# EAGLE library part TEXAS_INSTRUMENTS-DIGITAL_POTENTIOMETER-TPL0102-100PWR (library Module_ICs)
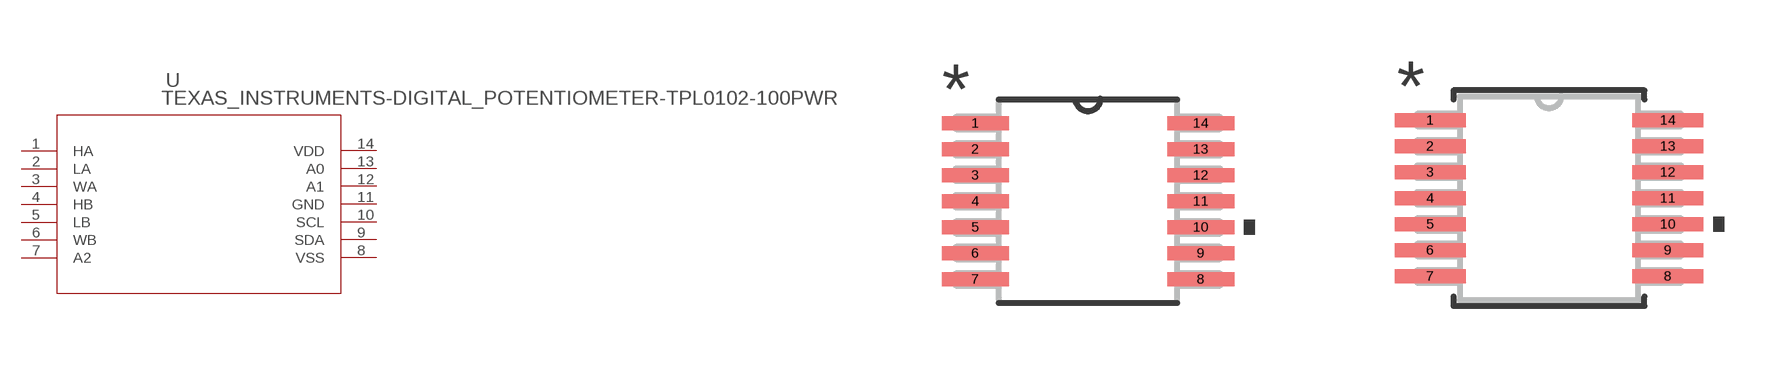
[diagram p62: symbol with the pads of PW14; footprints PW14, PW14-M]

Designator prefix U

## TEXAS_INSTRUMENTS-DIGITAL_POTENTIOMETER-TPL0102-100PWR (DATASHEET_URL: http://www.ti.com/lit/gpn/TPL0102-100; DESCRIPTION: 256 Taps Dual Channel Digital Potentiometer with I2C Interface and Non-Volatile Memory; FAMILY_NAME: DIGITAL POTENTIOMETER; GENERIC_PART_NUMBER: TPL0102-100; INDUSTRY_STD_PKG_TYPE: TSSOP; MANUFACTURER: Texas Instruments; MANUFACTURER_PART_NUMBER: TPL0102-100PWR; PACKAGE_DESIGNATOR: PW; PIN_COUNT: 14; VENDOR: Texas Instruments)  [PW14]
1  HA
2  LA
3  WA
4  HB
5  LB
6  WB
7  A2  in
8  VSS  pwr
9  SDA
10  SCL  in
11  GND  pwr
12  A1  in
13  A0  in
14  VDD  pwr

## TEXAS_INSTRUMENTS-DIGITAL_POTENTIOMETER-TPL0102-100PWRPW14-M (DATASHEET_URL: http://www.ti.com/lit/gpn/TPL0102-100; DESCRIPTION: 256 Taps Dual Channel Digital Potentiometer with I2C Interface and Non-Volatile Memory; FAMILY_NAME: DIGITAL POTENTIOMETER; GENERIC_PART_NUMBER: TPL0102-100; INDUSTRY_STD_PKG_TYPE: TSSOP; MANUFACTURER: Texas Instruments; MANUFACTURER_PART_NUMBER: TPL0102-100PWR; PACKAGE_DESIGNATOR: PW; PIN_COUNT: 14; VENDOR: Texas Instruments)  [PW14-M]
Pads as for PW14

## TEXAS_INSTRUMENTS-DIGITAL_POTENTIOMETER-TPL0102-100PWRPW14-L (DATASHEET_URL: http://www.ti.com/lit/gpn/TPL0102-100; DESCRIPTION: 256 Taps Dual Channel Digital Potentiometer with I2C Interface and Non-Volatile Memory; FAMILY_NAME: DIGITAL POTENTIOMETER; GENERIC_PART_NUMBER: TPL0102-100; INDUSTRY_STD_PKG_TYPE: TSSOP; MANUFACTURER: Texas Instruments; MANUFACTURER_PART_NUMBER: TPL0102-100PWR; PACKAGE_DESIGNATOR: PW; PIN_COUNT: 14; VENDOR: Texas Instruments)  [PW14-L]
Pads as for PW14

## Footprint PW14 (pad centres in mm)
smd 1.676 x 0.356: 1 -2.819,1.95; 2 -2.819,1.3; 3 -2.819,0.65; 4 -2.819,0; 5 -2.819,-0.65; 6 -2.819,-1.3; 7 -2.819,-1.95; 8 2.819,-1.95; 9 2.819,-1.3; 10 2.819,-0.65; 11 2.819,0; 12 2.819,0.65; 13 2.819,1.3; 14 2.819,1.95

## Footprint PW14-M (pad centres in mm)
smd 1.778 x 0.356: 1 -2.972,1.95; 2 -2.972,1.3; 3 -2.972,0.65; 4 -2.972,0; 5 -2.972,-0.65; 6 -2.972,-1.3; 7 -2.972,-1.95; 8 2.972,-1.95; 9 2.972,-1.3; 10 2.972,-0.65; 11 2.972,0; 12 2.972,0.65; 13 2.972,1.3; 14 2.972,1.95

## Footprint PW14-L (pad centres in mm)
smd 1.168 x 0.305: 1 -2.87,1.95; 2 -2.87,1.3; 3 -2.87,0.65; 4 -2.87,0; 5 -2.87,-0.65; 6 -2.87,-1.3; 7 -2.87,-1.95; 8 2.87,-1.95; 9 2.87,-1.3; 10 2.87,-0.65; 11 2.87,0; 12 2.87,0.65; 13 2.87,1.3; 14 2.87,1.95